# Altium schematic symbol library STMicroelectronics.SchLib: 1 symbol
Pins are listed as number, name and electrical type; pins without a type are passive.

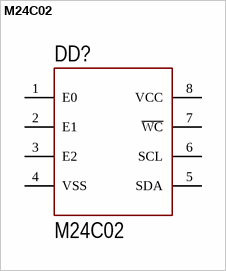
[diagram p0: symbol M24C02]

## M24C02
designator DD?, comment Part: M24C02  (hidden comment: M24C02-RMN6)
2 Kbit serial I2C bus EEPROM; Voltage: R; Case: MN
footprint SOIC-8 (pitch 1.27 mm)
pins: 1 E0 (power), 2 E1 (power), 3 E2 (power), 4 VSS (power), 5 SDA (power), 6 SCL (power), 7 ~{WC} (power), 8 VCC (power)